# Altium footprint library Fuse_and_holder.PcbLib: 2 footprints
Each footprint in its own frame and in the unit in brackets; x right, y up, seen from the top. Pads: shape width x height; smd on the part's side, far side on the other; paste and mask are expansions set on the pad; w line width, h text height; cw(c..) or ccw(c..) is an arc to the next point about the centre after c.
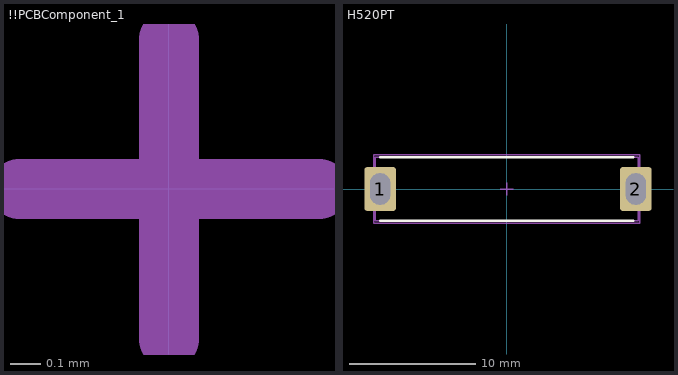
[diagram p0: the footprints below, top view; thin cyan lines are the x and y axes]

## !!PCBComponent_1 [mm]
M3_comm_top:
  text ".comment" at -0.9,-0.3 h1
M7_courtyard_top:
  lines w0.2: -0.5,0 0.5,0 ; 0,-0.5 0,0.5

## H520PT [mm] "H520PT"
height 0.025
pads (2):
  rrect20% 2.5x3.5 hole 1.6 slot 2.5 at 90 deg mask+0.05: 1(-10,0) 2(10.2,0)
Top Overlay:
  lines w0.2: -10,-2.5 10,-2.5 ; -10,2.5 10,2.5
M3_comm_top:
  text ".comment" at 0,0 h1
M5_asm_top:
  lines w0.1: -10.4,-2.5 -10.4,2.5 10.4,2.5 10.4,-2.5 -10.4,-2.5
  text ".Designator" at -0.9,2.8 h1
M7_courtyard_top:
  lines w0.1: -0.5,0 0.5,0 ; 0,-0.5 0,0.5 ; -10.5,-2.7 10.5,-2.7 10.5,2.7 -10.5,2.7 -10.5,-2.7
Mechanical 15:
  lines w0.1: -0.5,0 0.5,0 ; 0,-0.5 0,0.5
3D body "User Library-H520PT.STEP": height 5.2, standoff -14.8, extent -10.2,-2.6 10.4,2.6